# Altium schematic symbol library SCH - MCU - ATSAM - MICROCHIP ATSAMG54G19-XX WLCSP49.SchLib: 1 symbol
Pins are listed as number, name and electrical type; pins without a type are passive.

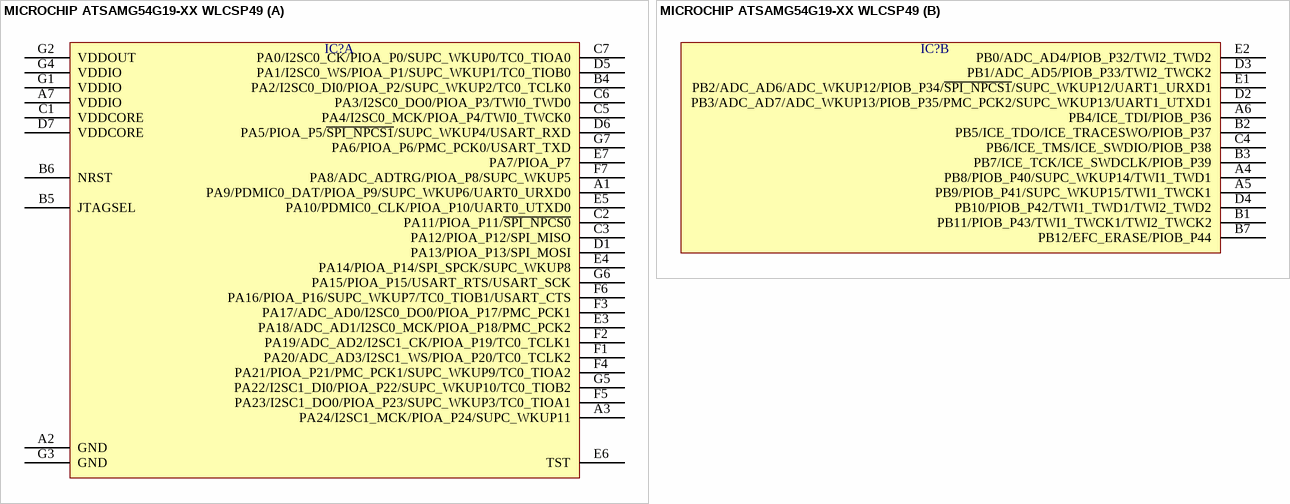
[diagram p0: symbol MICROCHIP ATSAMG54G19-XX WLCSP49]

## MICROCHIP ATSAMG54G19-XX WLCSP49
designator IC?  (value not drawn)
part A pins: A1 PA9/PDMIC0_DAT/PIOA_P9/SUPC_WKUP6/UART0_URXD0, A2 GND, A3 PA24/I2SC1_MCK/PIOA_P24/SUPC_WKUP11, A7 VDDIO, B4 PA2/I2SC0_DI0/PIOA_P2/SUPC_WKUP2/TC0_TCLK0, B5 JTAGSEL, B6 NRST, C1 VDDCORE, C2 PA11/PIOA_P11/~{SPI_NPCS0}, C3 PA12/PIOA_P12/SPI_MISO, C5 PA4/I2SC0_MCK/PIOA_P4/TWI0_TWCK0, C6 PA3/I2SC0_DO0/PIOA_P3/TWI0_TWD0, C7 PA0/I2SC0_CK/PIOA_P0/SUPC_WKUP0/TC0_TIOA0, D1 PA13/PIOA_P13/SPI_MOSI, D5 PA1/I2SC0_WS/PIOA_P1/SUPC_WKUP1/TC0_TIOB0, D6 PA5/PIOA_P5/~{SPI_NPCS1}/SUPC_WKUP4/USART_RXD, D7 VDDCORE, E3 PA18/ADC_AD1/I2SC0_MCK/PIOA_P18/PMC_PCK2, E4 PA14/PIOA_P14/SPI_SPCK/SUPC_WKUP8, E5 PA10/PDMIC0_CLK/PIOA_P10/UART0_UTXD0, E6 TST, E7 PA7/PIOA_P7, F1 PA20/ADC_AD3/I2SC1_WS/PIOA_P20/TC0_TCLK2, F2 PA19/ADC_AD2/I2SC1_CK/PIOA_P19/TC0_TCLK1, F3 PA17/ADC_AD0/I2SC0_DO0/PIOA_P17/PMC_PCK1, F4 PA21/PIOA_P21/PMC_PCK1/SUPC_WKUP9/TC0_TIOA2, F5 PA23/I2SC1_DO0/PIOA_P23/SUPC_WKUP3/TC0_TIOA1, F6 PA16/PIOA_P16/SUPC_WKUP7/TC0_TIOB1/USART_CTS, F7 PA8/ADC_ADTRG/PIOA_P8/SUPC_WKUP5, G1 VDDIO, G2 VDDOUT, G3 GND, G4 VDDIO, G5 PA22/I2SC1_DI0/PIOA_P22/SUPC_WKUP10/TC0_TIOB2, G6 PA15/PIOA_P15/USART_RTS/USART_SCK, G7 PA6/PIOA_P6/PMC_PCK0/USART_TXD
part B pins: A4 PB8/PIOB_P40/SUPC_WKUP14/TWI1_TWD1, A5 PB9/PIOB_P41/SUPC_WKUP15/TWI1_TWCK1, A6 PB4/ICE_TDI/PIOB_P36, B1 PB11/PIOB_P43/TWI1_TWCK1/TWI2_TWCK2, B2 PB5/ICE_TDO/ICE_TRACESWO/PIOB_P37, B3 PB7/ICE_TCK/ICE_SWDCLK/PIOB_P39, B7 PB12/EFC_ERASE/PIOB_P44, C4 PB6/ICE_TMS/ICE_SWDIO/PIOB_P38, D2 PB3/ADC_AD7/ADC_WKUP13/PIOB_P35/PMC_PCK2/SUPC_WKUP13/UART1_UTXD1, D3 PB1/ADC_AD5/PIOB_P33/TWI2_TWCK2, D4 PB10/PIOB_P42/TWI1_TWD1/TWI2_TWD2, E1 PB2/ADC_AD6/ADC_WKUP12/PIOB_P34/~{SPI_NPCS1}/SUPC_WKUP12/UART1_URXD1, E2 PB0/ADC_AD4/PIOB_P32/TWI2_TWD2